# EAGLE library part P80C31SBPN (library NXP_By_element14_Batch_1)
80C51 8-bit microcontroller family
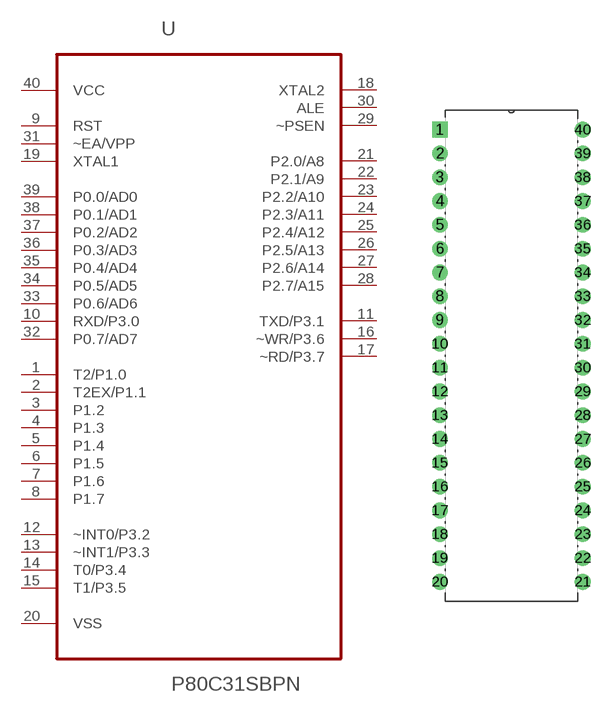
[diagram p380: symbol with the pads of DIP254P1524X470-40; footprint DIP254P1524X470-40]

Designator prefix U

## P80C31SBPN (MPN: P80C31SBPN; OC_FARNELL: 120509; OC_NEWARK: 67C9971; P1I: o; PACKAGE: DIP-40; SUPPLIER: NXP)  [DIP254P1524X470-40]
1  T2/P1.0
2  T2EX/P1.1  in
3  P1.2
4  P1.3
5  P1.4
6  P1.5
7  P1.6
8  P1.7
9  RST  in
10  RXD/P3.0  in
11  TXD/P3.1  out
12  ~INT0/P3.2  in
13  ~INT1/P3.3  in
14  T0/P3.4  in
15  T1/P3.5  in
16  ~WR/P3.6  out
17  ~RD/P3.7  out
18  XTAL2  out
19  XTAL1  in
20  VSS  pas
21  P2.0/A8
22  P2.1/A9
23  P2.2/A10
24  P2.3/A11
25  P2.4/A12
26  P2.5/A13
27  P2.6/A14
28  P2.7/A15
29  ~PSEN  out
30  ALE  out
31  ~EA/VPP  in
32  P0.7/AD7
33  P0.6/AD6
34  P0.5/AD5
35  P0.4/AD4
36  P0.3/AD3
37  P0.2/AD2
38  P0.1/AD1
39  P0.0/AD0
40  VCC  pwr

## Footprint DIP254P1524X470-40 (pad centres in mm)
drill 1.118 square: 1 -15.24,48.26
drill 1.118: 2 -15.24,45.72; 3 -15.24,43.18; 4 -15.24,40.64; 5 -15.24,38.1; 6 -15.24,35.56; 7 -15.24,33.02; 8 -15.24,30.48; 9 -15.24,27.94; 10 -15.24,25.4; 11 -15.24,22.86; 12 -15.24,20.32; 13 -15.24,17.78; 14 -15.24,15.24; 15 -15.24,12.7; 16 -15.24,10.16; 17 -15.24,7.62; 18 -15.24,5.08; 19 -15.24,2.54; 20 -15.24,0; 21 0,0; 22 0,2.54; 23 0,5.08; 24 0,7.62; 25 0,10.16; 26 0,12.7; 27 0,15.24; 28 0,17.78; 29 0,20.32; 30 0,22.86; 31 0,25.4; 32 0,27.94; 33 0,30.48; 34 0,33.02; 35 0,35.56; 36 0,38.1; 37 0,40.64; 38 0,43.18; 39 0,45.72; 40 0,48.26